# Altium schematic symbol library Schlib1.SchLib: 168 symbols (part 1 of 4)
Pins are listed as number, name and electrical type; pins without a type are passive.

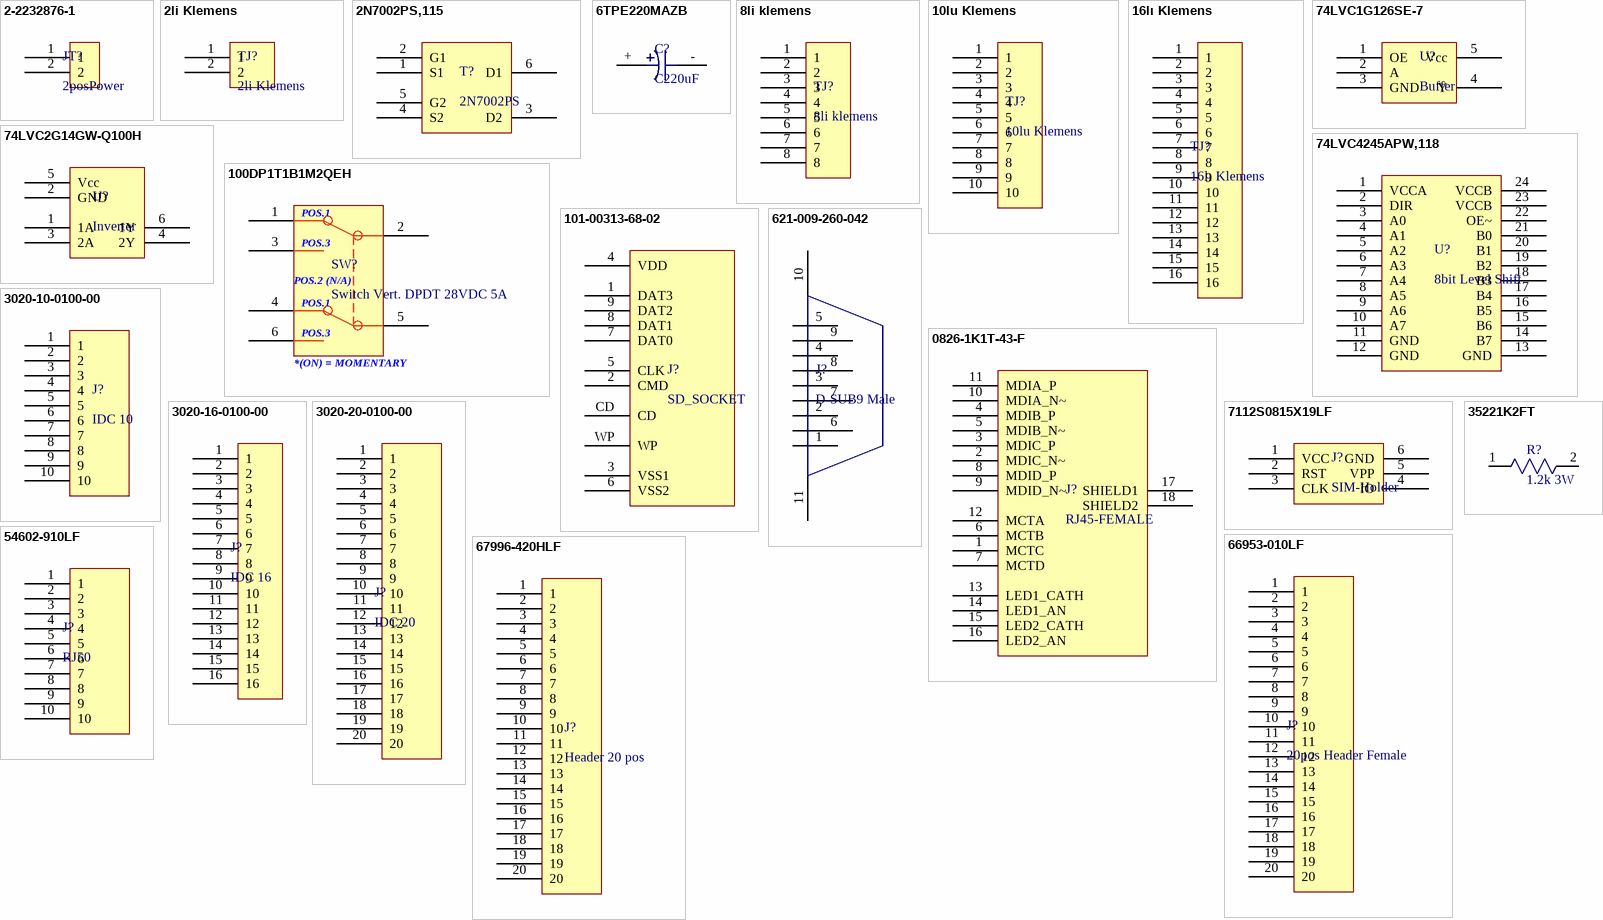
[diagram p0: symbols 2-2232876-1 to 67996-420HLF]

## 2-2232876-1
designator JT?, comment 2posPower
GIC6.0MM CONNECTOR HEADER 2POS; Manufacturer: TE Connectivity AMP Connectors; Manufacturer Part Number: 2-2232876-1; Connector Type: Header, Shrouded; Number of Positions: 2; Number of Positions Loaded: All; Pitch: 0.236" (6.00mm); Supplier 1: Digi-Key; RoHS: RoHS Compliant; Category: Connectors, Interconnects; Stock 1: 2796; Pricing 1: 1=0.51, 10=0.482, 25=0.4132, 50=0.3512, 100=0.3373, 250=0.30292, 500=0.28914, 1000=0.24095, 2500=0.2203 (USD); Packaging: Bulk; Part Status: Active; Contact Type: Male Pin; Number of Rows: 1; Row Spacing: -; Contact Mating Length: -; Mounting Type: Through Hole; Termination: Kinked Pin, Solder; Fastening Type: Latch Holder; Features: Board Guide; Contact Finish: Tin; Contact Finish Thickness: 31.5µin (0.80µm); Color: Natural; ComponentLink1URL: http://www.te.com/commerce/DocumentDelivery/DDEController?Action=srchrtrv&DocNm=2232876&DocType=Customer+Drawing&DocLang=English; ComponentLink1Description: http://www.te.com/commerce/DocumentDelivery/DDEController?Action=srchrtrv&DocNm=2232876&DocType=Customer+Drawing&DocLang=English; Supplier Part Number 1: A123805-ND
footprint GI TE con
pins: 1, 2

## 2li Klemens
designator TJ?
footprint 5.08x2
pins: 1, 2

## 2N7002PS,115
designator T?, comment 2N7002PS
MOSFET 2N-CH 60V 0.32A 6TSSOP; Manufacturer: NXP Semiconductors; Manufacturer Part Number: 2N7002PS,115; FET Type: 2 N-Channel (Dual); FET Feature: Logic Level Gate; Current - Continuous Drain (Id) @ 25°C: 320mA; Rds On (Max) @ Id, Vgs: 1.6 Ohm @ 500mA, 10V; Vgs(th) (Max) @ Id: 2.4V @ 250µA; Gate Charge (Qg) @ Vgs: 0.8nC @ 4.5V; Input Capacitance (Ciss) @ Vds: 50pF @ 10V; Power - Max: 420mW; Supplier 1: Digi-Key; RoHS: RoHS Compliant; Category: Discrete Semiconductor Products; Stock 1: 39102; Pricing 1: 1=0.42, 10=0.309, 100=0.1748, 500=0.11588, 1000=0.08888 (USD); Packaging: Cut Tape (CT); Drain to Source Voltage (Vdss): 60V; Operating Temperature: 150°C (TJ); Mounting Type: Surface Mount; Package / Case: 6-TSSOP, SC-88, SOT-363; Supplier Device Package: 6-TSSOP; ComponentLink1URL: http://www.nxp.com/documents/data_sheet/2N7002PS.pdf; ComponentLink1Description: http://www.nxp.com/documents/data_sheet/2N7002PS.pdf; Supplier Part Number 1: 568-5984-1-ND
footprint SOT363-W
pins: 1 S1, 2 G1, 3 D2, 4 S2, 5 G2, 6 D1

## 6TPE220MAZB
designator C?, comment C220uF
CAP TANT POLY 220UF 6.3V 1411; Manufacturer: Panasonic Electronic Components; Manufacturer Part Number: 6TPE220MAZB; Manufacturer Size Code: B2; Capacitance: 220µF; Tolerance: ±20%; Type: Molded; ESR (Equivalent Series Resistance): 35 mOhm; Supplier 1: Digi-Key; RoHS: RoHS Compliant; Category: Capacitors; Stock 1: 20161; Pricing 1: 1=1.54, 10=1.215, 25=1.114, 50=1.0532, 100=0.9115, 250=0.8102, 500=0.68868, 1000=0.60765 (USD); Packaging: Cut Tape (CT); Part Status: Active; Voltage - Rated: 6.3V; Operating Temperature: -55°C ~ 105°C; Lifetime @ Temp.: -; Mounting Type: Surface Mount; Package / Case: 1411 (3528 Metric); Size / Dimension: 0.138" L x 0.110" W (3.50mm x 2.80mm); Height - Seated (Max): 0.079" (2.00mm); Lead Spacing: -; Features: General Purpose; ComponentLink1URL: http://industrial.panasonic.com/www-cgi/jvcr13pz.cgi?E+CI+4+AAA8005+6TPE220MAZB+8+WW; ComponentLink1Description: http://industrial.panasonic.com/www-cgi/jvcr13pz.cgi?E+CI+4+AAA8005+6TPE220MAZB+8+WW; Supplier Part Number 1: P16245CT-ND
footprint L3528
pins: +, -

## 8li klemens
designator TJ?
footprint 5.08x8
pins: 1, 2, 3, 4, 5, 6, 7, 8

## 10lu Klemens
designator TJ?
footprint 5.08x10
pins: 1, 2, 3, 4, 5, 6, 7, 8, 9, 10

## 16lı Klemens
designator TJ?
footprint 5.08x16
pins: 1, 2, 3, 4, 5, 6, 7, 8, 9, 10, 11, 12, 13, 14, 15, 16

## 74LVC1G126SE-7
designator U?, comment Buffer
IC BUFF/DVR TRI-ST 1BIT SOT353; Manufacturer: Diodes Incorporated; Manufacturer Part Number: 74LVC1G126SE-7; Logic Type: Buffer, Non-Inverting; Number of Elements: 1; Output Type: Push-Pull; Current - Output High, Low: 32mA, 32mA; Voltage - Supply: 1.65 V ~ 5.5 V; Supplier 1: Digi-Key; RoHS: RoHS Compliant; Category: Integrated Circuits (ICs); Stock 1: 3224; Pricing 1: 1=0.33, 10=0.247, 100=0.1398, 500=0.0927, 1000=0.0711 (USD); Packaging: Cut Tape (CT); Number of Bits per Element: 1; Input Type: -; Operating Temperature: -40°C ~ 125°C (TA); Mounting Type: Surface Mount; Package / Case: 5-TSSOP, SC-70-5, SOT-353; Supplier Device Package: SOT-353; ComponentLink1URL: http://www.diodes.com/_files/datasheets/74LVC1G126.pdf; ComponentLink1Description: http://www.diodes.com/_files/datasheets/74LVC1G126.pdf; Supplier Part Number 1: 74LVC1G126SE-7DICT-ND
footprint SOT353
pins: 1 OE, 2 A, 3 GND, 4 Y, 5 Vcc

## 74LVC2G14GW-Q100H
designator U?, comment Inverter
IC SCHMITT TRIGGER DUAL INV SC88; Manufacturer: NXP Semiconductors; Manufacturer Part Number: 74LVC2G14GW-Q100H; Number of Circuits: 2; Voltage - Supply: 1.65 V ~ 5.5 V; Current - Quiescent (Max): 40µA; Current - Output High, Low: 32mA, 32mA; Logic Level - Low: 0.25 V ~ 1.2 V; Logic Level - High: 1.5 V ~ 3.6 V; Max Propagation Delay @ V, Max CL: 4.3ns @ 5V, 50pF; Supplier 1: Digi-Key; RoHS: RoHS Compliant; Category: Integrated Circuits (ICs); Stock 1: 1006; Pricing 1: 1=0.37, 10=0.305, 100=0.1614, 500=0.10616, 1000=0.07233 (USD); Packaging: Cut Tape (CT); Logic Type: Inverter; Number of Inputs: 2; Features: Schmitt Trigger; Operating Temperature: -40°C ~ 125°C; Mounting Type: Surface Mount; Supplier Device Package: 6-TSSOP; Package / Case: 6-TSSOP, SC-88, SOT-363; ComponentLink1URL: http://www.nxp.com/documents/data_sheet/74LVC2G14_Q100.pdf; ComponentLink1Description: http://www.nxp.com/documents/data_sheet/74LVC2G14_Q100.pdf; Supplier Part Number 1: 568-12205-1-ND
footprint SOT363
pins: 1 1A, 2 GND, 3 2A, 4 2Y, 5 Vcc, 6 1Y

## 74LVC4245APW,118
designator U?, comment 8bit Level Shift
IC TXRX TRANSLATING DUAL 24TSSOP; Manufacturer: NXP USA Inc.; Manufacturer Part Number: 74LVC4245APW,118; Translator Type: Voltage Level; Channel Type: Bidirectional; Number of Circuits: 1; Channels per Circuit: 8; Voltage - VCCA: 1.5 V ~ 5.5 V; Voltage - VCCB: 1.5 V ~ 3.6 V; Output Type: Tri-State, Non-Inverted; Supplier 1: Digi-Key; RoHS: RoHS Compliant; Category: Integrated Circuits (ICs); Stock 1: 33465; Pricing 1: 1=0.93, 10=0.816, 100=0.6254, 500=0.4944, 1000=0.39552 (USD); Packaging: Cut Tape (CT); Part Status: Active; Input Signal: -; Output Signal: -; Data Rate: -; Operating Temperature: -40°C ~ 125°C (TA); Features: -; Mounting Type: Surface Mount; Package / Case: 24-TSSOP (0.173", 4.40mm Width); Supplier Device Package: 24-TSSOP; ComponentLink1URL: http://www.nxp.com/documents/data_sheet/74LVC4245A.pdf; ComponentLink1Description: http://www.nxp.com/documents/data_sheet/74LVC4245A.pdf; Supplier Part Number 1: 568-5002-1-ND
pins: 1 VCCA, 2 DIR, 3 A0, 4 A1, 5 A2, 6 A3, 7 A4, 8 A5, 9 A6, 10 A7, 11 GND, 12 GND, 13 GND, 14 B7, 15 B6, 16 B5, 17 B4, 18 B3, 19 B2, 20 B1, 21 B0, 22 OE~, 23 VCCB, 24 VCCB

## 100DP1T1B1M2QEH
designator SW?, comment Switch Vert. DPDT 28VDC 5A
SWITCH TOGGLE DPDT 5A 120V; Manufacturer: E-Switch; Manufacturer Part Number: 100DP1T1B1M2QEH; Switch Function: On-On; Current Rating: 5A (AC/DC); Actuator Type: Standard Round; Actuator Length: 10.41mm; Illumination: Non-Illuminated; Actuator Material: Brass, Chrome Plated; Electrical Life: 40,000 Cycles; Supplier 1: Digi-Key; RoHS: RoHS Compliant; Category: Switches; Stock 1: 998; Pricing 1: 1=2.79, 10=2.67, 25=2.5544, 50=2.4382, 100=2.2059, 250=2.03176, 500=1.8576, 1000=1.6254, 5000=1.56735 (USD); Packaging: Bulk; Part Status: Active; Circuit: DPDT; Illumination Type, Color: -; Illumination Voltage (Nominal): -; Mounting Type: Panel Mount; Termination Style: PC Pin; Panel Cutout Dimensions: Circular - 6.35mm Dia; Bushing Thread: 1/4-40; Ingress Protection: -; Features: Epoxy Sealed Terminals; Operating Temperature: -30°C ~ 85°C; ComponentLink1URL: http://spec_sheets.e-switch.com/specs/ST121009.pdf; ComponentLink1Description: http://spec_sheets.e-switch.com/specs/ST121009.pdf; Supplier Part Number 1: EG2400-ND
footprint SWITCH Toggle Vert. DPDT
pins: 1 POS.1, 2 Comm.1, 3 POS.3, 4 POS.1, 5 Comm.2, 6 POS.3
text: POS.2 (N/A); *(ON) = MOMENTARY

## 101-00313-68-02
designator J?, comment SD_SOCKET
CONN SD CARD PUSH-PUSH R/A SMD; Manufacturer: Amphenol Commercial Products; Manufacturer Part Number: 101-00313-68-02; Card Type: Secure Digital - SD; Number of Positions: 9; Connector Type: Connector and Ejector; Insertion, Removal Method: Push In, Push Out; Supplier 1: Digi-Key; RoHS: RoHS Compliant; Category: Connectors, Interconnects; Stock 1: 7601; Pricing 1: 1=2.33, 10=2.11, 25=1.9808, 50=1.8948, 100=1.8087 (USD); Packaging: Cut Tape (CT); Ejector Side: -; Mounting Type: Surface Mount, Right Angle; Features: Board Guide; Height Above Board: 0.106" (2.70mm); Mounting Feature: Normal, Standard - Top; Contact Finish: Gold; Contact Finish Thickness: 15µin (0.38µm); ComponentLink1URL: http://media.digikey.com/pdf/Data%20Sheets/Amphenol%20PDFs/101-00313.pdf; ComponentLink1Description: http://media.digikey.com/pdf/Data%20Sheets/Amphenol%20PDFs/101-00313.pdf; Supplier Part Number 1: 101-00313-68-02CT-ND
footprint SD_card
pins: 1 DAT3, 2 CMD, 3 VSS1, 4 VDD, 5 CLK, 6 VSS2, 7 DAT0, 8 DAT1, 9 DAT2, CD, WP

## 621-009-260-042
designator J?, comment D-SUB9 Male
CONN D-SUB PLUG 9POS R/A SOLDER; Manufacturer: EDAC Inc.; Manufacturer Part Number: 621-009-260-042; Connector Type: Plug, Male Pins; Number of Positions: 9; Flange Feature: Housing/Shell (4-40); Current Rating: 5A; Supplier 1: Digi-Key; RoHS: RoHS Compliant; Category: Connectors, Interconnects; Stock 1: 1265; Pricing 1: 1=1.89, 25=1.61, 50=1.54, 100=1.47, 250=1.33, 500=1.225, 1000=1.05, 2500=0.98, 5000=0.931 (USD); Packaging: Bulk; Connector Style: D-Sub; Number of Rows: 2; Shell Size, Connector Layout: 1 (DE, E); Contact Type: Signal; Mounting Type: Panel Mount, Through Hole, Right Angle; Termination: Solder; Features: Board Lock, Grounding Indents, Shielded; Shell Material, Finish: Steel, Nickel Plated; Contact Finish: Gold; Contact Finish Thickness: Flash; Ingress Protection: -; Operating Temperature: -55°C ~ 105°C; Voltage Rating: -; Housing Material: Polyester Thermoplastic; Color: Black; ComponentLink1URL: http://www.edac.net/file_library/series/24_621-622%20series%20(new).pdf; ComponentLink1Description: http://www.edac.net/file_library/series/24_621-622%20series%20(new).pdf; Supplier Part Number 1: 621-009-260-042-ND
pins: 1, 2, 3, 4, 5, 6, 7, 8, 9, 10, 11

## 0826-1K1T-43-F
designator J?, comment RJ45-FEMALE
CONN MAGJACK 1PORT 1000 BASE-T; Manufacturer: Bel Fuse Inc.; Manufacturer Part Number: 0826-1K1T-43-F; Connector Type: RJ45; Number of Ports: 1; LED Color: Green, Yellow - Green; Number of Cores per Jack: 8; Shielding: Shielded, EMI Finger; Tab Direction: Up; Shield Material: Copper Alloy; Supplier 1: Digi-Key; RoHS: RoHS Compliant; Category: Connectors, Interconnects; Stock 1: 0; Pricing 1: 1=6.03, 10=5.784, 100=4.82, 250=4.21752, 500=4.097, 1000=3.4945, 2500=3.2535, 5000=3.133 (USD); Packaging: Tray; Number of Rows: 1; Applications: 10/100/1000 Base-T, AutoMDIX; Mounting Type: Through Hole; Orientation: 90° Angle (Right); Termination: Solder; Height Above Board: 0.536" (13.61mm); Features: Board Guide; Contact Material: -; Contact Finish: Gold; Contact Finish Thickness: 50µin (1.27µm); Housing Material: Polyamide (PA), Nylon; Operating Temperature: -; ComponentLink1URL: http://media.digikey.com/pdf/Data%20Sheets/Bel%20Fuse%20PDFs/0826-1K1T-43-F.pdf; ComponentLink1Description: http://media.digikey.com/pdf/Data%20Sheets/Bel%20Fuse%20PDFs/0826-1K1T-43-F.pdf; Supplier Part Number 1: 507-1430-ND
footprint RJ45-8P8C-Mag
pins: 1 MCTC, 2 MDIC_N~, 3 MDIC_P, 4 MDIB_P, 5 MDIB_N~, 6 MCTB, 7 MCTD, 8 MDID_P, 9 MDID_N~, 10 MDIA_N~, 11 MDIA_P, 12 MCTA, 13 LED1_CATH, 14 LED1_AN, 15 LED2_CATH, 16 LED2_AN, 17 SHIELD1, 18 SHIELD2

## 3020-10-0100-00
designator J?, comment IDC 10
IDC BOX HEADER .100" 10POS; Manufacturer: CNC Tech; Manufacturer Part Number: 3020-10-0100-00; Connector Type: Header, Shrouded; Number of Positions: 10; Number of Positions Loaded: All; Pitch: 0.100" (2.54mm); Supplier 1: Digi-Key; RoHS: RoHS Compliant; Category: Connectors, Interconnects; Stock 1: 2498; Pricing 1: 1=0.48, 10=0.45, 50=0.36, 100=0.345, 250=0.315, 500=0.3, 1000=0.2475, 2500=0.225, 5000=0.2175 (USD); Packaging: Tray; Part Status: Active; Contact Type: Male Pin; Number of Rows: 2; Row Spacing: 0.100" (2.54mm); Contact Mating Length: -; Mounting Type: Through Hole; Termination: Solder; Fastening Type: -; Features: -; Contact Finish: Gold; Contact Finish Thickness: Flash; Color: -; ComponentLink1URL: http://cnctech.us/pdfs/3020-XX-0100-00.pdf; ComponentLink1Description: http://cnctech.us/pdfs/3020-XX-0100-00.pdf; Supplier Part Number 1: 1175-1609-ND
footprint IDC10
pins: 1, 2, 3, 4, 5, 6, 7, 8, 9, 10

## 3020-16-0100-00
designator J?, comment IDC 16
IDC BOX HEADER .100" 16POS; Manufacturer: CNC Tech; Manufacturer Part Number: 3020-16-0100-00; Connector Type: Header, Shrouded; Number of Positions: 16; Number of Positions Loaded: All; Pitch: 0.100" (2.54mm); Supplier 1: Digi-Key; RoHS: RoHS Compliant; Category: Connectors, Interconnects; Stock 1: 4144; Pricing 1: 1=0.58, 10=0.54, 50=0.432, 100=0.414, 250=0.378, 500=0.36, 1000=0.297, 2500=0.27, 5000=0.261 (USD); Packaging: Tray; Contact Type: Male Pin; Number of Rows: 2; Row Spacing: 0.100" (2.54mm); Contact Mating Length: -; Mounting Type: Through Hole; Termination: Solder; Fastening Type: -; Features: -; Contact Finish: Gold; Contact Finish Thickness: Flash; Color: -; ComponentLink1URL: http://cnctech.us/pdfs/3020-XX-0100-00.pdf; ComponentLink1Description: http://cnctech.us/pdfs/3020-XX-0100-00.pdf; Supplier Part Number 1: 1175-1611-ND
footprint IDC16
pins: 1, 2, 3, 4, 5, 6, 7, 8, 9, 10, 11, 12, 13, 14, 15, 16

## 3020-20-0100-00
designator J?, comment IDC 20
IDC BOX HEADER .100" 20POS; Manufacturer: CNC Tech; Manufacturer Part Number: 3020-20-0100-00; Connector Type: Header, Shrouded; Number of Positions: 20; Number of Positions Loaded: All; Pitch: 0.100" (2.54mm); Supplier 1: Digi-Key; RoHS: RoHS Compliant; Category: Connectors, Interconnects; Stock 1: 5668; Pricing 1: 1=0.67, 10=0.63, 50=0.504, 100=0.483, 250=0.441, 500=0.42, 1000=0.3465, 2500=0.315, 5000=0.3045 (USD); Packaging: Tray; Contact Type: Male Pin; Number of Rows: 2; Row Spacing: 0.100" (2.54mm); Contact Mating Length: -; Mounting Type: Through Hole; Termination: Solder; Fastening Type: -; Features: -; Contact Finish: Gold; Contact Finish Thickness: Flash; Color: -; ComponentLink1URL: http://cnctech.us/pdfs/3020-XX-0100-00.pdf; ComponentLink1Description: http://cnctech.us/pdfs/3020-XX-0100-00.pdf; Supplier Part Number 1: 1175-1612-ND
footprint IDC20
pins: 1, 2, 3, 4, 5, 6, 7, 8, 9, 10, 11, 12, 13, 14, 15, 16, 17, 18, 19, 20

## 7112S0815X19LF
designator J?, comment SIM-Holder
CONN SIM/SAM CARD HINGED TYPE; Manufacturer: Amphenol FCI; Manufacturer Part Number: 7112S0815X19LF; Card Type: SIM, SAM Card; Number of Positions: 6; Connector Type: Connector and Ejector; Insertion, Removal Method: Hinged Lid; Supplier 1: Digi-Key; RoHS: RoHS Compliant; Category: Connectors, Interconnects; Stock 1: 1223; Pricing 1: 1=0.86, 10=0.755, 25=0.7108, 50=0.681, 100=0.6515, 250=0.59224 (USD); Packaging: Cut Tape (CT); Part Status: Active; Ejector Side: -; Mounting Type: Surface Mount, Right Angle; Features: Board Guide; Height Above Board: 0.118" (3.00mm); Mounting Feature: Normal, Standard - Top; Contact Finish: Gold, GXT™; Contact Finish Thickness: -; ComponentLink1URL: http://portal.fciconnect.com/Comergent//fci/drawing/vrw_11882.pdf; ComponentLink1Description: http://portal.fciconnect.com/Comergent//fci/drawing/vrw_11882.pdf; Supplier Part Number 1: 609-1402-1-ND
footprint Simholder
pins: 1 VCC, 2 RST, 3 CLK, 4 IO, 5 VPP, 6 GND

## 35221K2FT
designator R?, comment 1.2k 3W
RES SMD 1.2K OHM 1% 3W 2512; Manufacturer: TE Connectivity Passive Product; Manufacturer Part Number: 35221K2FT; Supplier 1: Digi-Key; RoHS: RoHS Compliant; Category: Resistors; Stock 1: 2000; Pricing 1: 2000=0.27036, 6000=0.26796 (USD); Packaging: Tape & Reel (TR); Part Status: Active; Tolerance: ±1%; Power (Watts): 3W; Composition: Thick Film; Features: -; Temperature Coefficient: -; Operating Temperature: -55°C ~ 155°C; Package / Case: 2512 (6432 Metric); Supplier Device Package: -; Size / Dimension: 0.250" L x 0.126" W (6.35mm x 3.20mm); Height - Seated (Max): 0.047" (1.20mm); Failure Rate: -; ComponentLink1URL: http://www.te.com/commerce/DocumentDelivery/DDEController?Action=srchrtrv&DocNm=9-1773463-7&DocType=DS&DocLang=English; ComponentLink1Description: http://www.te.com/commerce/DocumentDelivery/DDEController?Action=srchrtrv&DocNm=9-1773463-7&DocType=DS&DocLang=English; Supplier Part Number 1: A121164TR-ND
footprint Res_2512Pack_1.2k_3W_RESC6432X12N (Chip Resistor, 2-Leads, Body 6.35x3.20mm, IPC Medium Density)
pins: 1, 2

## 54602-910LF
designator J?, comment RJ50
CONN MOD JACK 10P10C R/A UNSHLD; Manufacturer: Amphenol FCI; Manufacturer Part Number: 54602-910LF; Number of Positions/Contacts: 10p10c (RJ50); Number of Ports: 1; Shielding: Unshielded; Ratings: Cat3; LED Color: Does Not Contain LED; Tab Direction: Down; Supplier 1: Digi-Key; RoHS: RoHS Compliant; Category: Connectors, Interconnects; Stock 1: 4777; Pricing 1: 1=0.62, 10=0.579, 25=0.5208, 100=0.4437, 250=0.40508, 500=0.3858, 1000=0.31829, 2500=0.28935, 5000=0.27971 (USD); Packaging: Bulk; Connector Type: Jack; Number of Rows: 1; Mounting Type: Through Hole; Orientation: 90° Angle (Right); Termination: Solder; Features: Board Lock; Ingress Protection: -; Contact Material: Phosphor Bronze; Contact Finish: Gold; Contact Finish Thickness: 15µin (0.38µm); Housing Material: Polybutylene Terephthalate (PBT), Glass Filled; Operating Temperature: -25°C ~ 90°C; ComponentLink1URL: http://portal.fciconnect.com/Comergent//fci/drawing/c-bmj-0101.pdf; ComponentLink1Description: http://portal.fciconnect.com/Comergent//fci/drawing/c-bmj-0101.pdf; Supplier Part Number 1: 609-1047-ND
pins: 1, 2, 3, 4, 5, 6, 7, 8, 9, 10

## 66953-010LF
designator J?, comment 20pos Header Female
CONN RCPT 20POS .100 DL STR PCB; Manufacturer: Amphenol FCI; Manufacturer Part Number: 66953-010LF; Connector Type: Receptacle; Style: Board to Board; Number of Positions: 20; Number of Positions Loaded: All; Pitch - Mating: 0.100" (2.54mm); Contact Length - Post: 0.138" (3.50mm); Material Flammability Rating: UL94 V-0; Voltage Rating: 1250V; Supplier 1: Digi-Key; RoHS: RoHS Compliant; Category: Connectors, Interconnects; Stock 1: 3544; Pricing 1: 1=3.52, 10=3.375, 100=2.8122, 500=2.39038, 1000=2.03885, 5000=1.82793 (USD); Packaging: Tube; Part Status: Active; Contact Type: Female Socket; Number of Rows: 2; Row Spacing - Mating: 0.100" (2.54mm); Mounting Type: Through Hole; Termination: Solder; Fastening Type: Push-Pull; Contact Finish - Mating: Gold; Contact Finish Thickness - Mating: 30µin (0.76µm); Insulation Color: Black; Insulation Height: 0.325" (8.25mm); Operating Temperature: -65°C ~ 125°C; Contact Finish - Post: Tin; Mated Stacking Heights: -; Ingress Protection: -; Features: -; Current Rating: -; Applications: Automotive, General Purpose, Industrial, Medical, Telecommunications; Insulation Material: Polyester, Glass Filled; Contact Shape: Square; Contact Material: Brass; Contact Finish Thickness - Post: 100µin (2.54µm); ComponentLink1URL: http://portal.fciconnect.com/Comergent//fci/drawing/66953.pdf; ComponentLink1Description: http://portal.fciconnect.com/Comergent//fci/drawing/66953.pdf; Supplier Part Number 1: 609-2274-ND
footprint IDC20_Female_Receptacle_66953-010LF
pins: 1, 2, 3, 4, 5, 6, 7, 8, 9, 10, 11, 12, 13, 14, 15, 16, 17, 18, 19, 20

## 67996-420HLF
designator J?, comment Header 20 pos
CONN HEADER 20POS .100 STR TIN; Manufacturer: Amphenol FCI; Manufacturer Part Number: 67996-420HLF; Connector Type: Header, Unshrouded; Pitch: 0.100" (2.54mm); Number of Positions: 20; Number of Positions Loaded: All; Supplier 1: Digi-Key; RoHS: RoHS Compliant; Category: Connectors, Interconnects; Stock 1: 4485; Pricing 1: 1=0.68, 10=0.641, 100=0.4913, 500=0.4272, 1000=0.35244, 5000=0.30972, 10000=0.28836 (USD); Packaging: Bulk; Part Status: Active; Contact Type: Male Pin; Number of Rows: 2; Row Spacing: 0.100" (2.54mm); Mounting Type: Through Hole; Termination: Solder; Fastening Type: -; Contact Mating Length: 0.230" (5.84mm); Features: -; Contact Finish: Tin; Contact Finish Thickness: 100µin (2.54µm); Color: Black; ComponentLink1URL: http://portal.fciconnect.com/Comergent//fci/drawing/67996.pdf; ComponentLink1Description: http://portal.fciconnect.com/Comergent//fci/drawing/67996.pdf; Supplier Part Number 1: 609-3221-ND
footprint IDC20 - Male_67996-420HLF
pins: 1, 2, 3, 4, 5, 6, 7, 8, 9, 10, 11, 12, 13, 14, 15, 16, 17, 18, 19, 20

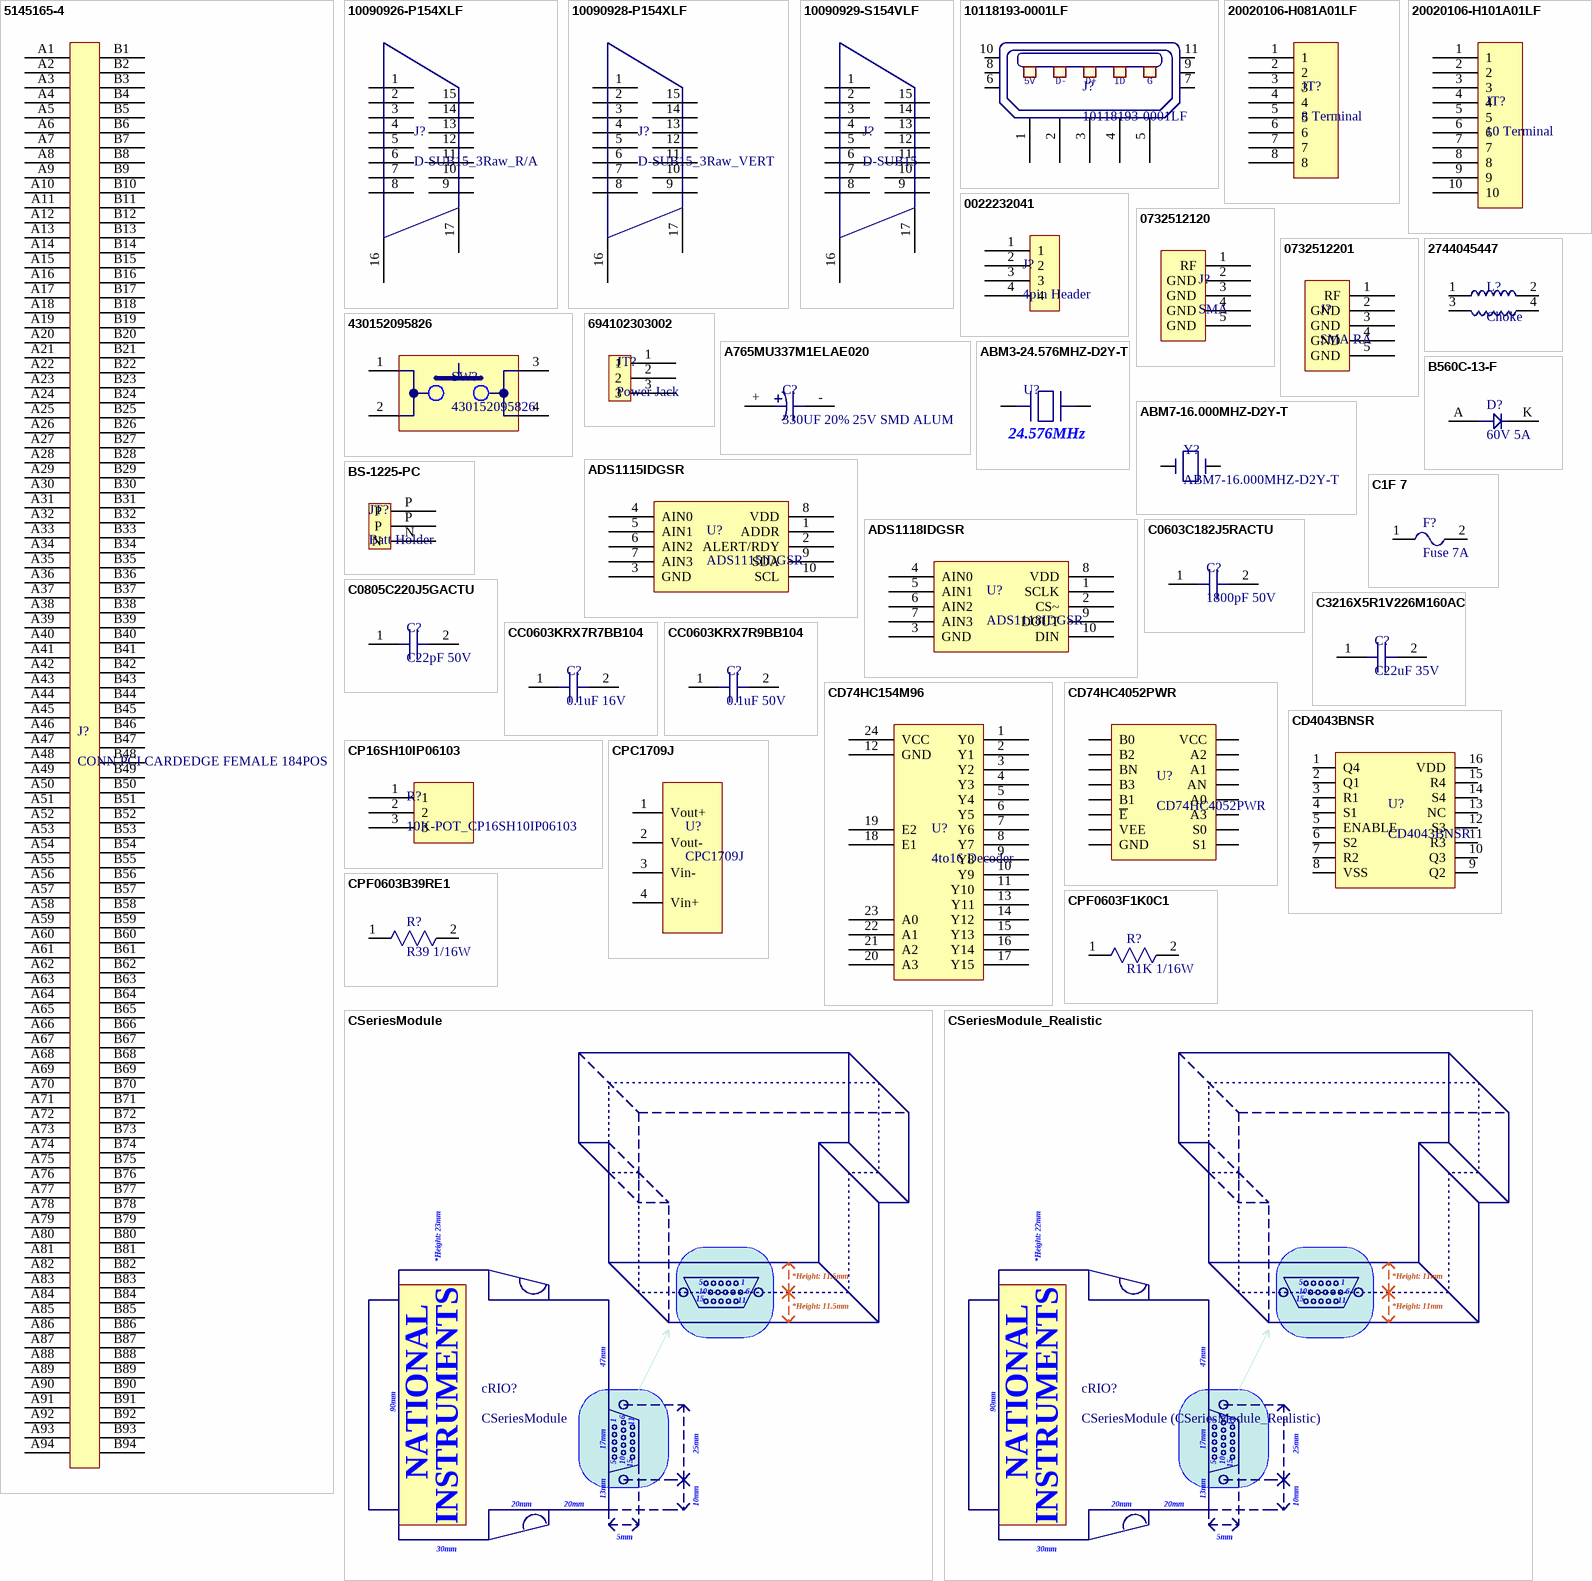
[diagram p1: symbols 5145165-4 to CSeriesModule_Realistic]

## 5145165-4
designator J?, comment CONN PCI CARDEDGE FEMALE 184POS
CONN PCI 3.3V 64Bit CARDEDGE FEMALE 184POS; Manufacturer: TE Connectivity AMP Connectors; Manufacturer Part Number: 5145165-4; Number of Positions/Bay/Row: 11; 49; 32; Number of Positions: 184; Card Thickness: 0.062" (1.57mm); Pitch: 0.050" (1.27mm); Material - Insulation: Thermoplastic; Read Out: Dual; Supplier 1: Digi-Key; RoHS: RoHS Compliant; Category: Connectors, Interconnects; Stock 1: 4627; Pricing 1: 1=4.23, 10=4.056, 25=3.718, 50=3.549, 100=3.38, 250=2.95752, 500=2.873, 1000=2.4505, 2500=2.2815 (USD); Packaging: Bulk; Part Status: Active; Card Type: PCI 3.3V 64 Bit; Gender: Female; Features: Board Guide; Mounting Type: Through Hole; Termination: Solder, Staggered; Contact Material: Phosphor Bronze; Contact Finish: Gold; Contact Finish Thickness: 30.0µin (0.76µm); Contact Type: -; Color: Natural; Flange Feature: -; Operating Temperature: -; ComponentLink1URL: http://www.te.com/commerce/DocumentDelivery/DDEController?Action=srchrtrv&DocNm=5145165&DocType=Customer+Drawing&DocLang=English; ComponentLink1Description: http://www.te.com/commerce/DocumentDelivery/DDEController?Action=srchrtrv&DocNm=5145165&DocType=Customer+Drawing&DocLang=English; Supplier Part Number 1: A97908-ND
footprint PCI_3.3V_64Bit_184
pins: A1, A2, A3, A4, A5, A6, A7, A8, A9, A10, A11, A12, A13, A14, A15, A16, A17, A18, A19, A20, A21, A22, A23, A24, A25, A26, A27, A28, A29, A30, A31, A32, A33, A34, A35, A36, A37, A38, A39, A40, A41, A42, A43, A44, A45, A46, A47, A48, A49, A50, A51, A52, A53, A54, A55, A56, A57, A58, A59, A60, A61, A62, A63, A64, A65, A66, A67, A68, A69, A70, A71, A72, A73, A74, A75, A76, A77, A78, A79, A80, A81, A82, A83, A84, A85, A86, A87, A88, A89, A90, A91, A92, A93, A94, B1, B2, B3, B4, B5, B6, B7, B8, B9, B10, B11, B12, B13, B14, B15, B16, B17, B18, B19, B20, B21, B22, B23, B24, B25, B26, B27, B28, B29, B30, B31, B32, B33, B34, B35, B36, B37, B38, B39, B40, B41, B42, B43, B44, B45, B46, B47, B48, B49, B50, B51, B52, B53, B54, B55, B56, B57, B58, B59, B60, B61, B62, B63, B64, B65, B66, B67, B68, B69, B70, B71, B72, B73, B74, B75, B76, B77, B78, B79, B80, B81, B82, B83, B84, B85, B86, B87, B88, B89, B90, B91, B92, B93, B94

## 10090926-P154XLF
designator J?, comment D-SUB15_3Raw_R/A
CONN DSUB HD PLUG 15POS R/A SLDR; Manufacturer: Amphenol FCI; Manufacturer Part Number: 10090926-P154XLF; Connector Style: D-Sub, High Density; Connector Type: Plug, Male Pins; Number of Positions: 15; Flange Feature: Board Side (4-40); Material Flammability Rating: UL94 V-0; Current Rating: 2.5A; Voltage Rating: 250V; Backset Spacing: 0.350" (8.89mm); Supplier 1: Digi-Key; RoHS: RoHS Compliant; Category: Connectors, Interconnects; Stock 1: 3423; Pricing 1: 1=1.66, 10=1.503, 25=1.4104, 50=1.3492, 100=1.2879, 250=1.16528, 500=1.07328, 1000=0.91995, 2500=0.85862 (USD); Packaging: Tray; Part Status: Active; Number of Rows: 3; Shell Size, Connector Layout: 1 (DE, E) High Density; Contact Type: Signal; Mounting Type: Board Edge, Through Hole, Right Angle; Termination: Solder; Features: Board Lock, Grounding Indents, Mounting Brackets; Shell Material, Finish: Steel, Nickel Plated; Contact Finish: Gold; Contact Finish Thickness: Flash; Ingress Protection: -; Operating Temperature: -55°C ~ 105°C; Color: Black; Contact Form: -; Housing Material: Thermoplastic, Glass Filled; Wire Gauge: -; Contact Material: Copper Alloy; ComponentLink1URL: https://cdn.amphenol-icc.com/media/wysiwyg/files/drawing/10090926.pdf; ComponentLink1Description: https://cdn.amphenol-icc.com/media/wysiwyg/files/drawing/10090926.pdf; Supplier Part Number 1: 609-4022-ND
footprint D-SUB_15POS_3Rx5C_R/A
pins: 1, 2, 3, 4, 5, 6, 7, 8, 9, 10, 11, 12, 13, 14, 15, 16, 17

## 10090928-P154XLF
designator J?, comment D-SUB15_3Raw_VERT
CONN D-SUB HD PLUG 15P VERT SLDR; Manufacturer: Amphenol FCI; Manufacturer Part Number: 10090928-P154XLF; Connector Style: D-Sub, High Density; Connector Type: Plug, Male Pins; Number of Positions: 15; Flange Feature: Board Side (4-40); Material Flammability Rating: UL94 V-0; Current Rating: 2.5A; Voltage Rating: 250V; Supplier 1: Digi-Key; RoHS: RoHS Compliant; Category: Connectors, Interconnects; Stock 1: 974; Pricing 1: 1=2.45, 10=2.226, 25=2.09, 50=1.9992, 100=1.9083, 250=1.72652, 500=1.59022, 1000=1.36305, 2500=1.27218 (USD); Packaging: Tray; Part Status: Active; Number of Rows: 3; Shell Size, Connector Layout: 1 (DE, E) High Density; Contact Type: Signal; Mounting Type: Through Hole; Termination: Solder; Features: Board Lock, Grounding Indents; Shell Material, Finish: Steel, Nickel Plated; Contact Finish: Gold; Contact Finish Thickness: Flash; Ingress Protection: -; Operating Temperature: -55°C ~ 105°C; Color: Black; Contact Form: -; Housing Material: Thermoplastic, Glass Filled; Wire Gauge: -; Contact Material: Copper Alloy; Backset Spacing: -; ComponentLink1URL: https://cdn.amphenol-icc.com/media/wysiwyg/files/drawing/10090928.pdf; ComponentLink1Description: https://cdn.amphenol-icc.com/media/wysiwyg/files/drawing/10090928.pdf; Supplier Part Number 1: 609-4027-ND
pins: 1, 2, 3, 4, 5, 6, 7, 8, 9, 10, 11, 12, 13, 14, 15, 16, 17

## 10090929-S154VLF
designator J?, comment D-SUB15
CONN DSUB HD RCPT 15POS VERT SLD; Manufacturer: Amphenol FCI; Manufacturer Part Number: 10090929-S154VLF; Connector Style: D-Sub, High Density; Connector Type: Receptacle, Female Sockets; Number of Positions: 15; Flange Feature: Mating Side, Female Screwlock (4-40); Voltage Rating: 250V; Current Rating: 2.5A; Supplier 1: Digi-Key; RoHS: RoHS Compliant; Category: Connectors, Interconnects; Stock 1: 6887; Pricing 1: 1=2.15, 10=1.952, 50=1.753, 100=1.6733, 250=1.51392, 500=1.3944, 1000=1.1952, 2500=1.11552, 5000=1.05974 (USD); Packaging: Tray; Number of Rows: 3; Shell Size, Connector Layout: 1 (DE, E) High Density; Contact Type: Signal; Mounting Type: Through Hole; Termination: Solder; Features: Board Lock; Shell Material, Finish: Steel, Nickel Plated; Contact Finish: Gold; Contact Finish Thickness: Flash; Ingress Protection: -; Operating Temperature: -55°C ~ 105°C; Housing Material: Thermoplastic, Glass Filled; Color: Black; ComponentLink1URL: http://portal.fciconnect.com/Comergent//fci/drawing/10090929.pdf; ComponentLink1Description: http://portal.fciconnect.com/Comergent//fci/drawing/10090929.pdf; Supplier Part Number 1: 609-4031-ND
pins: 1, 2, 3, 4, 5, 6, 7, 8, 9, 10, 11, 12, 13, 14, 15, 16, 17

## 10118193-0001LF
designator J?
CONN USB MICRO B RECPT SMT R/A; Manufacturer: Amphenol FCI; Connector Type: USB - micro B; Number of Contacts: 5; Gender: Receptacle; Specifications: USB 2.0; Number of Ports: 1; Current Rating: 1.8A per Contact; Voltage - Rated: 100VAC; Mating Cycles: 10000; Shielding: Shielded; Material Flammability Rating: UL94 V-0; Supplier 1: Digi-Key; Manufacturer Part Number: 10118193-0001LF; RoHS: RoHS Compliant; Category: Connectors, Interconnects; Stock: 127790; Pricing 1: 1=0.46, 10=0.437, 25=0.3744, 50=0.318, 100=0.3056, 250=0.27444, 500=0.26196 (USD); Packaging: Cut Tape (CT); Part Status: Active; Mounting Type: Surface Mount, Right Angle; Through Hole; Mounting Feature: Horizontal; Termination: Solder; Features: Solder Retention; Ingress Protection: -; Operating Temperature: -30°C ~ 80°C; Contact Finish: Gold; Shell/Shielding Material: Steel, Stainless; Insulation Color: Black; ComponentLink1URL: http://portal.fciconnect.com/Comergent//fci/drawing/10118193.pdf; ComponentLink1Description: http://portal.fciconnect.com/Comergent//fci/drawing/10118193.pdf; Supplier Part Number 1: 609-4616-1-ND
footprint 10118193
pins: 1, 2, 3, 4, 5, 6, 7, 8, 9, 10, 11
text: 5V; D-; D+; ID; G

## 20020106-H081A01LF
designator JT?, comment 8 Terminal
TERM BLOCK HDR 8POS VERT 5.08MM; Manufacturer: Amphenol FCI; Manufacturer Part Number: 20020106-H081A01LF; Number of Positions: 8; Number of Levels: 1; Pitch: 0.200" (5.08mm); Header Orientation: Vertical; Current - UL: 12A; Voltage - UL: 300V; Supplier 1: Digi-Key; RoHS: RoHS Compliant; Category: Connectors, Interconnects; Stock 1: 758; Pricing 1: 1=1.03, 10=0.721, 100=0.6077, 250=0.5132, 500=0.48618, 1000=0.43216, 2500=0.35923, 5000=0.35113, 10000=0.34438 (USD); Packaging: Bulk; Type: Header, Male Pins, Shrouded (2 Side); Positions Per Level: 8; Plug Wire Entry: -; Termination Style: Solder; Mounting Type: Through Hole; Current - IEC: -; Voltage - IEC: -; Wire Gauge or Range - AWG: -; Wire Gauge or Range - mm²: -; Color: Green; Operating Temperature: -40°C ~ 115°C; Contact Mating Finish: Tin; Features: -; ComponentLink1URL: http://portal.fciconnect.com/Comergent//fci/drawing/20020106.pdf; ComponentLink1Description: http://portal.fciconnect.com/Comergent//fci/drawing/20020106.pdf; Supplier Part Number 1: 609-4279-ND
footprint 5.08x8
pins: 1, 2, 3, 4, 5, 6, 7, 8

## 20020106-H101A01LF
designator JT?, comment 10 Terminal
TERM BLOCK HDR 10POS VERT 5.08MM; Manufacturer: Amphenol FCI; Manufacturer Part Number: 20020106-H101A01LF; Number of Positions: 10; Number of Levels: 1; Pitch: 0.200" (5.08mm); Header Orientation: Vertical; Current - UL: 12A; Voltage - UL: 300V; Supplier 1: Digi-Key; RoHS: RoHS Compliant; Category: Connectors, Interconnects; Stock 1: 691; Pricing 1: 1=1.28, 25=0.84, 100=0.7592, 250=0.64108, 500=0.60732, 1000=0.53984, 2500=0.44874, 5000=0.43862, 10000=0.43019 (USD); Packaging: Bulk; Type: Header, Male Pins, Shrouded (2 Side); Positions Per Level: 10; Plug Wire Entry: -; Termination Style: Solder; Mounting Type: Through Hole; Current - IEC: -; Voltage - IEC: -; Wire Gauge or Range - AWG: -; Wire Gauge or Range - mm²: -; Color: Green; Operating Temperature: -40°C ~ 115°C; Contact Mating Finish: Tin; Features: -; ComponentLink1URL: http://portal.fciconnect.com/Comergent//fci/drawing/20020106.pdf; ComponentLink1Description: http://portal.fciconnect.com/Comergent//fci/drawing/20020106.pdf; Supplier Part Number 1: 609-4280-ND
footprint 5.08x10
pins: 1, 2, 3, 4, 5, 6, 7, 8, 9, 10

## 0022232041
designator J?, comment 4pin Header
CONN HEADER 4POS .100 VERT TIN; Manufacturer: Molex, LLC; Manufacturer Part Number: 0022232041; Connector Type: Header, Unshrouded; Number of Positions: 4; Number of Positions Loaded: All; Pitch: 0.100" (2.54mm); Supplier 1: Digi-Key; RoHS: RoHS Compliant; Category: Connectors, Interconnects; Stock 1: 37589; Pricing 1: 1=0.27, 10=0.254, 25=0.218, 50=0.1854, 100=0.1781, 250=0.15996, 500=0.15268, 1000=0.12723, 2500=0.11632 (USD); Packaging: Bulk; Part Status: Active; Contact Type: Male Pin; Number of Rows: 1; Row Spacing: -; Contact Mating Length: 0.295" (7.49mm); Mounting Type: Through Hole; Termination: Solder; Fastening Type: Friction Lock; Features: -; Contact Finish: Tin; Contact Finish Thickness: 100µin (2.54µm); Color: White; ComponentLink1URL: http://www.molex.com/pdm_docs/sd/022232041_sd.pdf; ComponentLink1Description: http://www.molex.com/pdm_docs/sd/022232041_sd.pdf; Supplier Part Number 1: WM4202-ND
footprint 4pin con
pins: 1, 2, 3, 4

## 0732512120
designator J?, comment SMA
CONN SMA JACK 50 OHM EDGE MNT; Manufacturer: Molex, LLC; Manufacturer Part Number: 0732512120; Connector Type: Jack, Female Socket; Contact Termination: Solder; Impedance: 50 Ohm; Frequency - Max: 18GHz; Body Material: Brass; Body Finish: Gold; Center Contact Material: Beryllium Copper; Dielectric Material: Polytetrafluoroethylene (PTFE); Voltage Rating: 500V; Supplier 1: Digi-Key; RoHS: RoHS Compliant; Category: Connectors, Interconnects; Stock 1: 4851; Pricing 1: 1=3.47, 10=3.328, 25=3.0504, 50=2.9118, 100=2.7732, 250=2.42656, 500=2.35722, 1000=2.01057, 2500=1.87191 (USD); Packaging: Tray; Connector Style: SMA; Shield Termination: Solder; Mounting Type: Board Edge, End Launch; Panel Mount, Bulkhead; Cable Group: -; Fastening Type: Threaded; Features: -; Housing Color: Gold; Ingress Protection: -; Center Contact Plating: Gold; Operating Temperature: -65°C ~ 165°C; ComponentLink1URL: http://www.molex.com/pdm_docs/sd/732512120_sd.pdf; ComponentLink1Description: http://www.molex.com/pdm_docs/sd/732512120_sd.pdf; Supplier Part Number 1: WM5536-ND
pins: 1 RF, 2 GND, 3 GND, 4 GND, 5 GND

## 0732512201
designator J?, comment SMA RA
CONN SMA JACK R/A 50 OHM PCB; Manufacturer: Molex, LLC; Manufacturer Part Number: 0732512201; Connector Type: Jack, Female Socket; Contact Termination: Solder; Impedance: 50 Ohm; Frequency - Max: 18GHz; Body Material: Brass; Body Finish: Gold; Center Contact Material: Beryllium Copper; Dielectric Material: Polytetrafluoroethylene (PTFE); Voltage Rating: 500V; Supplier 1: Digi-Key; RoHS: RoHS Compliant; Category: Connectors, Interconnects; Stock 1: 1079; Pricing 1: 1=6.46, 10=6.187, 25=5.6488, 50=5.3798, 100=5.1108, 250=4.57284, 500=4.30384, 1000=3.76586, 2500=3.57757 (USD); Packaging: Tray; Part Status: Active; Connector Style: SMA; Shield Termination: Solder; Mounting Type: Panel Mount, Bulkhead; Through Hole, Right Angle; Cable Group: -; Fastening Type: Threaded; Features: -; Housing Color: Gold; Ingress Protection: -; Center Contact Plating: Gold; Operating Temperature: -65°C ~ 165°C; ComponentLink1URL: http://www.molex.com/pdm_docs/sd/732512201_sd.pdf; ComponentLink1Description: http://www.molex.com/pdm_docs/sd/732512201_sd.pdf; Supplier Part Number 1: WM5537-ND
footprint SMA RA
pins: 1 RF, 2 GND, 3 GND, 4 GND, 5 GND

## 2744045447
designator L?, comment Choke
FAIR-RITE - 2744045447 - FERRITE BEAD, 1400UOHM, 5A; Impedance @ 100MHz: 60; DC Current Rating: 5; DC Resistance Max: 1400; SVHC: No SVHC (17-Dec-2015); External Diameter: 2.85; Ferrite Mounting: SMD; Resistance: 1.2mohm<!--FANDB--><div class="features-and-benefits-container"><div class="features-and-benefits-description"><span class="features-benefits-value">The 2744045447 is a SM Bead provides a common magnetic path for the flux generated by the current to the load and the return current from the load. The current compensation results in zero magnetic flux in the bead. Wires are oxygen free high conductivity copper with 100% matte tin plating over a nickel undercoating. This SM bead meets the solderability specifications when tested in accordance with MIL-STD-202, method 208. After dipping the mounting site of the bead, the solder surface shall be at least 95% covered with a smooth solder coating. The edges of the copper strip are not specified as solderable surfaces. SM bead is controlled for impedance limits only and suitable for use with board components.</span></div><div class="features-and-benefits-list"><ul class="features-and-benefits-list-list"><li class="features-and-benefits-list-item">Supports broadband frequencies (10 to 300MHz)</li><li class="features-and-benefits-list-item">-55 to 125; Supplier 1: Farnell; Manufacturer: FAIR-RITE; Manufacturer Part Number: 2744045447; RoHS: YES; Stock 1: 13; Pricing 1: 1=0,731, 50=0,477, 100=0,417, 250=0,278, 500=0,261, 1000=0,244, 5000=0,209, 10000=0,182 (EUR); Ferrite Case Style: -; Impedance Tolerance: -; Product Range: -; Automotive Qualification Standards: -; Packaging: Cut Tape; ComponentLink1URL: http://www.farnell.com/datasheets/26138.pdf; ComponentLink1Description: http://www.farnell.com/datasheets/26138.pdf; Supplier Part Number 1: 1463463
footprint 2744045447_SOJ254P850X305-4M (SOJ, 4-Leads, Body 5.80x8.50mm, Pitch 2.54mm, IPC Medium Density)
pins: 1, 2, 3, 4

## 430152095826
designator SW?
SWITCH TACTILE SPST-NO 0.05A 12V; Manufacturer: Wurth Electronics Inc.; Switch Function: Off-Mom; Contact Rating @ Voltage: 0.05A @ 12VDC; Actuator Type: Standard; Actuator Height off PCB, Vertical: 9.50mm; Actuator Orientation: Top Actuated; Outline: 6.20mm x 6.20mm; Illumination: Non-Illuminated; Operating Force: 260gf; Actuator Material: Liquid Crystal Polymer (LCP); Switch Travel: 0.25mm; Mechanical Life: 200,000 Cycles; Supplier 1: Digi-Key; Manufacturer Part Number: 430152095826; RoHS: RoHS Compliant; Category: Switches; Stock 1: 8445; Pricing 1: 1=0.49, 50=0.458, 100=0.416 (USD); Packaging: Cut Tape (CT); Part Status: Active; Circuit: SPST-NO; Mounting Type: Surface Mount; Actuator Length, Right Angle: -; Termination Style: Gull Wing; Illumination Type, Color: -; Illumination Voltage (Nominal): -; Ingress Protection: -; Features: -; Operating Temperature: -40°C ~ 85°C; ComponentLink1URL: http://katalog.we-online.de/em/datasheet/4301x2xxx8x6.pdf; ComponentLink1Description: http://katalog.we-online.de/em/datasheet/4301x2xxx8x6.pdf; Supplier Part Number 1: 732-6999-1-ND
pins: 1, 2, 3, 4

## 694102303002
designator JT?, comment Power Jack
CONN PWR JACK DC RA TH; Manufacturer: Wurth Electronics Inc; Manufacturer Part Number: 694102303002; Gender: Male; Industry Recognized Mating Diameter: 1.05mm ID (0.041"), 3.50mm OD (0.138"); Actual Diameter: 0.041" (1.05mm ID), 0.165" (4.20mm OD); Number of Positions/Contacts: 2 Conductors, 3 Contacts; Internal Switch(s): Single Switch, Normally Closed; Shielding: Unshielded; Voltage - Rated: 30VDC; Current Rating: 2A; Mating Length/Depth: 0.354" (9.00mm); Includes: 1 pc - 1 Connector; Supplier 1: Digi-Key; RoHS: RoHS Compliant; Category: Connectors, Interconnects; Stock 1: 1417; Pricing 1: 1=0.9, 10=0.84, 50=0.75, 100=0.69, 500=0.6, 1000=0.51 (USD); Packaging: Bulk; Part Status: Active; Connector Type: Jack; Mounting Type: Through Hole, Right Angle; Mounting Feature: -; Termination: Solder; Features: -; Insulation Color: -; Contact Material - Plating: Tin; Body Material: -; Operating Temperature: -40°C ~ 85°C; ComponentLink1URL: http://katalog.we-online.de/em/datasheet/6941xx303002.pdf; ComponentLink1Description: http://katalog.we-online.de/em/datasheet/6941xx303002.pdf; Supplier Part Number 1: 732-5922-ND
footprint PJ-3
pins: 1, 2, 3

## A765MU337M1ELAE020
designator C?, comment 330UF 20% 25V SMD ALUM
CAP ALUM POLY 330UF 20% 25V SMD; Manufacturer: KEMET; Manufacturer Part Number: A765MU337M1ELAE020; Type: Polymer; ESR (Equivalent Series Resistance): 20 mOhm; Lifetime @ Temp.: 2000 Hrs @ 105°C; Surface Mount Land Size: 0.406" L x 0.406" W (10.30mm x 10.30mm); Supplier 1: Digi-Key; RoHS: RoHS Compliant; Category: Capacitors; Stock 1: 2000; Pricing 1: 1=1.97, 10=1.552, 100=1.1642 (USD); Packaging: Cut Tape (CT); Part Status: Active; Tolerance: ±20%; Operating Temperature: -55°C ~ 105°C; Ratings: -; Applications: General Purpose; Lead Spacing: -; Size / Dimension: 0.394" Dia (10.00mm); Height - Seated (Max): 0.508" (12.90mm); Mounting Type: Surface Mount; Package / Case: Radial, Can - SMD; ComponentLink1URL: https://search.kemet.com/component-edge/download/datasheet/A765MU337M1ELAE020.pdf; ComponentLink1Description: https://search.kemet.com/component-edge/download/datasheet/A765MU337M1ELAE020.pdf; Supplier Part Number 1: 399-16514-1-ND
footprint CAP_ALU_SMD_A765MU337M1ELAE020_CAPAE110103X129N (Aluminum Electrolytic Capacitor, Body 10.30x10.30x12.90mm, IPC Medium Density)
pins: +, -

## ABM3-24.576MHZ-D2Y-T
designator U?, comment 24.576MHz Osc.  (value not drawn)
CRYSTAL 24.5760MHZ 18PF SMD; Manufacturer: Abracon LLC; Manufacturer Part Number: ABM3-24.576MHZ-D2Y-T; Frequency Stability: ±30ppm; Frequency Tolerance: ±20ppm; Operating Mode: Fundamental; Supplier 1: Digi-Key; RoHS: RoHS Compliant; Category: Crystals, Oscillators, Resonators; Stock 1: 4484; Pricing 1: 1=1.14, 10=1.012, 50=0.946, 100=0.836, 500=0.792 (USD); Packaging: Cut Tape (CT); Part Status: Active; Type: MHz Crystal; Load Capacitance: 18pF; Operating Temperature: -40°C ~ 85°C; Ratings: -; Mounting Type: Surface Mount; Package / Case: 2-SMD, No Lead; Size / Dimension: 0.197" L x 0.126" W (5.00mm x 3.20mm); Height - Seated (Max): 0.051" (1.30mm); ComponentLink1URL: http://www.abracon.com/Resonators/abm3.pdf; ComponentLink1Description: http://www.abracon.com/Resonators/abm3.pdf; Supplier Part Number 1: 535-10644-1-ND
footprint 24.576MHz_CRY_CP5032X13N_original (Chip CRY, 2-Leads, Body 5.00x3.20mm, IPC Medium Density)
pins: 1, 2
text: 24.576MHz

## ABM7-16.000MHZ-D2Y-T
designator Y?
CRYSTAL 16.0000MHZ 18PF SMD; Manufacturer: Abracon LLC; Frequency: 16MHz; Frequency Stability: ±30ppm; Frequency Tolerance: ±20ppm; ESR (Equivalent Series Resistance): 50 Ohm; Operating Mode: Fundamental; Supplier 1: Digi-Key; Manufacturer Part Number: ABM7-16.000MHZ-D2Y-T; RoHS: RoHS Compliant; Category: Crystals, Oscillators, Resonators; Stock: 30126; Pricing 1: 1=0.72, 10=0.633, 50=0.5912, 100=0.5225, 500=0.495 (USD); Packaging: Cut Tape (CT); Part Status: Active; Type: MHz Crystal; Load Capacitance: 18pF; Operating Temperature: -40°C ~ 85°C; Ratings: -; Mounting Type: Surface Mount; Package / Case: 2-SMD, No Lead; Size / Dimension: 0.236" L x 0.138" W (6.00mm x 3.50mm); Height - Seated (Max): 0.055" (1.40mm); ComponentLink1URL: http://www.abracon.com/Resonators/abm7.pdf; ComponentLink1Description: http://www.abracon.com/Resonators/abm7.pdf; Supplier Part Number 1: 535-9840-1-ND
footprint ABM7_v1_1_BIG
pins: 1, 2

## ADS1115IDGSR
designator U?
IC ADC 16BIT 860SPS LP 10MSOP; Manufacturer: Texas Instruments; Number of Bits: 16; Sampling Rate (Per Second): 860; Number of Inputs: 2, 4; Input Type: Differential, Single Ended; Data Interface: I²C; Configuration: MUX-PGA-ADC; Number of A/D Converters: 1; Architecture: Sigma-Delta; Reference Type: Internal; Voltage - Supply, Analog: 2 V ~ 5.5 V; Supplier 1: Digi-Key; Manufacturer Part Number: ADS1115IDGSR; RoHS: RoHS Compliant; Category: Integrated Circuits (ICs); Stock 1: 2433; Pricing 1: 1=5.65, 10=5.072, 100=4.1607, 500=3.5397, 1000=2.5875 (USD); Packaging: Cut Tape (CT); Ratio - S/H:ADC: -; Voltage - Supply, Digital: 2 V ~ 5.5 V; Features: PGA, Selectable Address; Operating Temperature: -40°C ~ 125°C; Package / Case: 10-TFSOP, 10-MSOP (0.118", 3.00mm Width); Supplier Device Package: 10-VSSOP; ComponentLink1URL: http://www.ti.com/lit/ds/symlink/ads1113.pdf; ComponentLink1Description: http://www.ti.com/lit/ds/symlink/ads1113.pdf; Supplier Part Number 1: 296-38849-1-ND
footprint MSOP10
pins: 1 ADDR, 2 ALERT/RDY, 3 GND, 4 AIN0, 5 AIN1, 6 AIN2, 7 AIN3, 8 VDD, 9 SDA, 10 SCL

## ADS1118IDGSR
designator U?
IC ADC 16BIT SPI 860SPS 10MSOP; Manufacturer: Texas Instruments; Number of Bits: 16; Sampling Rate (Per Second): 860; Number of Inputs: 2, 4; Input Type: Differential, Single Ended; Configuration: MUX-PGA-ADC; Number of A/D Converters: 1; Architecture: Sigma-Delta; Reference Type: Internal; Voltage - Supply, Analog: 2 V ~ 5.5 V; Supplier 1: Digi-Key; Manufacturer Part Number: ADS1118IDGSR; RoHS: RoHS Compliant; Category: Integrated Circuits (ICs); Stock 1: 2872; Pricing 1: 1=5.65, 10=5.072, 100=4.1607, 500=3.5397, 1000=2.5875 (USD); Packaging: Cut Tape (CT); Part Status: Active; Data Interface: SPI; Ratio - S/H:ADC: -; Voltage - Supply, Digital: 2 V ~ 5.5 V; Features: PGA, Temperature Sensor; Operating Temperature: -40°C ~ 125°C; Package / Case: 10-TFSOP, 10-MSOP (0.118", 3.00mm Width); Supplier Device Package: 10-VSSOP; ComponentLink1URL: http://www.ti.com/lit/ds/symlink/ads1118.pdf; ComponentLink1Description: http://www.ti.com/lit/ds/symlink/ads1118.pdf; Supplier Part Number 1: 296-38850-1-ND
footprint MSOP10
pins: 1 SCLK, 2 CS~, 3 GND, 4 AIN0, 5 AIN1, 6 AIN2, 7 AIN3, 8 VDD, 9 DOUT, 10 DIN

## B560C-13-F
designator D?, comment 60V 5A
DIODE SCHOTTKY 60V 5A SMC; Manufacturer: Diodes Incorporated; Manufacturer Part Number: B560C-13-F; Voltage - Forward (Vf) (Max) @ If: 700mV @ 5A; Speed: Fast Recovery =< 500ns, > 200mA (Io); Current - Reverse Leakage @ Vr: 500µA @ 60V; Capacitance @ Vr, F: 300pF @ 4V, 1MHz; Supplier 1: Digi-Key; RoHS: RoHS Compliant; Category: Discrete Semiconductor Products; Stock 1: 17453; Pricing 1: 1=0.5, 10=0.425 (USD); Packaging: Cut Tape (CT); Part Status: Active; Diode Type: Schottky; Voltage - DC Reverse (Vr) (Max): 60V; Current - Average Rectified (Io): 5A; Reverse Recovery Time (trr): -; Mounting Type: Surface Mount; Package / Case: DO-214AB, SMC; Supplier Device Package: SMC; Operating Temperature - Junction: -55°C ~ 150°C; ComponentLink1URL: http://www.diodes.com/_files/datasheets/ds13012.pdf; ComponentLink1Description: http://www.diodes.com/_files/datasheets/ds13012.pdf; Supplier Part Number 1: B560C-FDICT-ND
footprint DB520C
pins: A 1, K 2

## BS-1225-PC
designator JT?, comment Batt Holder
HOLDER BATT COIN 12.5MM VERT MNT; Manufacturer: MPD (Memory Protection Devices); Manufacturer Part Number: BS-1225-PC; Battery Type, Function: Coin Cell, Holder; Style: Holder (Open); Battery Cell Size: Coin, 12.5mm; Number of Cells: 1; Battery Series: 1216, 1220, 1225; Supplier 1: Digi-Key; RoHS: RoHS Compliant; Category: Battery Products; Stock 1: 14022; Pricing 1: 1=0.98, 10=0.9, 100=0.82, 500=0.73, 1000=0.62 (USD); Part Status: Active; Mounting Type: PCB, Through Hole; Termination Style: PC Pin; Height Above Board: 0.551" (14.00mm); Operating Temperature: -40°C ~ 200°C; ComponentLink1URL: http://www.memoryprotectiondevices.com/datasheets/BS-1225-PC-datasheet.pdf; ComponentLink1Description: http://www.memoryprotectiondevices.com/datasheets/BS-1225-PC-datasheet.pdf; Supplier Part Number 1: BS-1225-PC-ND
pins: N, P, P

## C1F 7
designator F?, comment Fuse 7A
FUSE 7.0A 125VAC FAST 1206; Manufacturer: Bel Fuse Inc.; Manufacturer Part Number: C1F 7; Fuse Type: Board Mount (Cartridge Style Excluded); Voltage Rating - AC: 125V; Voltage Rating - DC: 63V; Breaking Capacity @ Rated Voltage: 35A AC, 50A DC; Approvals: CE, cURus; DC Cold Resistance: 0.012 Ohm; Supplier 1: Digi-Key; RoHS: RoHS Compliant; Category: Circuit Protection; Stock 1: 8906; Pricing 1: 1=0.26, 5=0.254, 10=0.243, 50=0.217, 100=0.202, 250=0.17952, 500=0.1496, 1000=0.14212 (USD); Packaging: Cut Tape (CT); Part Status: Active; Current Rating: 7A; Response Time: Fast; Package / Case: 1206 (3216 Metric); Mounting Type: Surface Mount; Melting I²t: *; Operating Temperature: -55°C ~ 125°C; Color: -; Size / Dimension: 0.126" L x 0.062" W (3.20mm x 1.58mm); ComponentLink1URL: http://belfuse.com/pdfs/C1F.pdf; ComponentLink1Description: http://belfuse.com/pdfs/C1F.pdf; Supplier Part Number 1: 507-1888-1-ND
footprint Fuse
pins: 1, 2

## C0603C182J5RACTU
designator C?, comment 1800pF 50V
CAP CER 1800PF 50V X7R 0603; Manufacturer: KEMET; Manufacturer Part Number: C0603C182J5RACTU; Tolerance: ±5%; Supplier 1: Digi-Key; RoHS: RoHS Compliant; Category: Capacitors; Stock 1: 8965; Pricing 1: 1=0.31, 10=0.218, 25=0.1792, 50=0.1528, 100=0.131, 250=0.1092, 500=0.09828, 1000=0.08299 (USD); Packaging: Cut Tape (CT); Part Status: Active; Capacitance: 1800pF; Voltage - Rated: 50V; Temperature Coefficient: X7R; Operating Temperature: -55°C ~ 125°C; Features: -; Ratings: -; Applications: General Purpose; Failure Rate: -; Mounting Type: Surface Mount, MLCC; Package / Case: 0603 (1608 Metric); Size / Dimension: 0.063" L x 0.031" W (1.60mm x 0.80mm); Height - Seated (Max): -; Thickness (Max): 0.034" (0.87mm); Lead Spacing: -; Lead Style: -; ComponentLink1URL: http://www.kemet.com/docfinder?Partnumber=C0603C182J5RACTU; ComponentLink1Description: http://www.kemet.com/docfinder?Partnumber=C0603C182J5RACTU; Supplier Part Number 1: 399-9024-1-ND
footprint C0603
pins: 1, 2

## C0805C220J5GACTU
designator C?, comment C22pF 50V
CAP CER 22PF 50V NP0 0805; Manufacturer: Kemet; Manufacturer Part Number: C0805C220J5GACTU; Tolerance: ±5%; Temperature Coefficient: C0G, NP0; Supplier 1: Digi-Key; RoHS: RoHS Compliant; Category: Capacitors; Stock 1: 355234; Pricing 1: 1=0.1, 10=0.048, 50=0.026, 100=0.022, 250=0.018, 500=0.0154, 1000=0.012 (USD); Packaging: Cut Tape (CT); Capacitance: 22pF; Voltage - Rated: 50V; Mounting Type: Surface Mount, MLCC; Operating Temperature: -55°C ~ 125°C; Applications: General Purpose; Ratings: -; Package / Case: 0805 (2012 Metric); Size / Dimension: 0.079" L x 0.049" W (2.00mm x 1.25mm); Height - Seated (Max): -; Thickness (Max): 0.035" (0.88mm); Lead Spacing: -; Features: Low ESL; Lead Style: -; ComponentLink1URL: http://www.kemet.com/docfinder?Partnumber=C0805C220J5GACTU; ComponentLink1Description: http://www.kemet.com/docfinder?Partnumber=C0805C220J5GACTU; Supplier Part Number 1: 399-1113-1-ND
footprint C0805
pins: 1, 2